# Altium footprint library OBD2.PcbLib: 1 footprints
Each footprint in its own frame and in the unit in brackets; x right, y up, seen from the top. Pads: shape width x height; smd on the part's side, far side on the other; paste and mask are expansions set on the pad; w line width, h text height; cw(c..) or ccw(c..) is an arc to the next point about the centre after c.
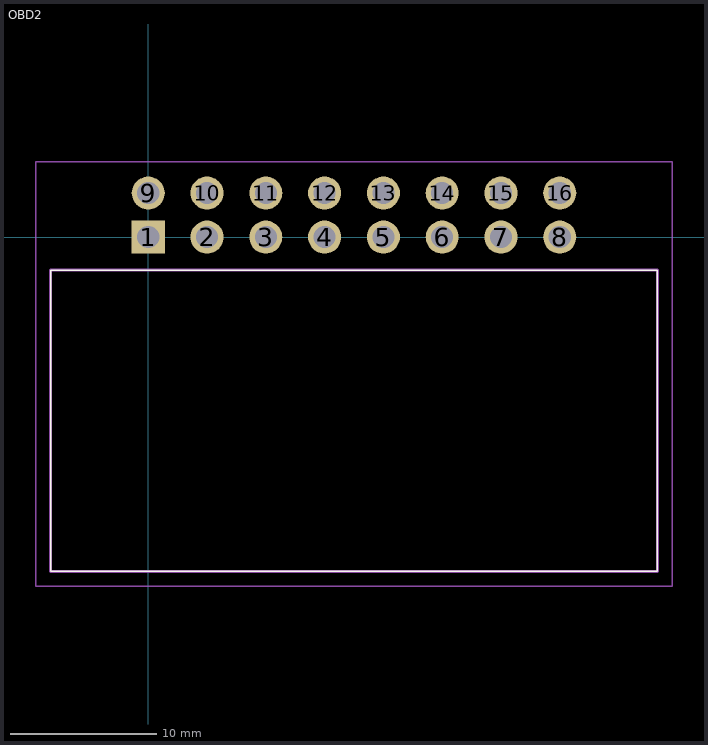
[diagram p0: the footprint, top view; thin cyan lines are the x and y axes]

## OBD2 [mm]
pads (16):
  rect 2.25x2.25 hole 1.5: 1(0,0)
  round 2.25 hole 1.5: 2(4,0) 3(8,0) 4(12,0) 5(16,0) 6(20,0) 7(24,0) 8(28,0) 9(0,3) 10(4,3) 11(8,3) 12(12,3) 13(16,3) 14(20,3) 15(24,3) 16(28,3)
Top Overlay:
  lines w0.1: -6.65,-22.75 34.65,-22.75 34.65,-2.25 -6.65,-2.25 -6.65,-22.75
Mechanical 15:
  lines w0.2: -6.65,-22.75 34.65,-22.75 34.65,-2.25 -6.65,-2.25 -6.65,-22.75
Mechanical 20:
  lines w0.1: -7.65,-23.75 35.65,-23.75 35.65,5.125 -7.65,5.125 -7.65,-23.75